# Altium footprint library PCAP_6.3x11.PcbLib: 1 footprints
Each footprint in its own frame and in the unit in brackets; x right, y up, seen from the top. Pads: shape width x height; smd on the part's side, far side on the other; paste and mask are expansions set on the pad; w line width, h text height; cw(c..) or ccw(c..) is an arc to the next point about the centre after c.
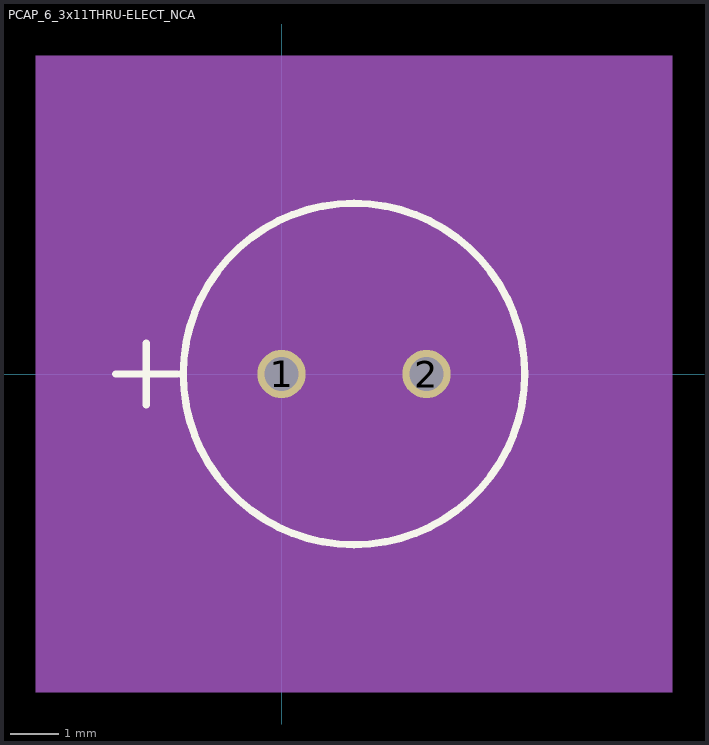
[diagram p0: the footprint, top view; thin cyan lines are the x and y axes]

## PCAP_6_3x11THRU-ELECT_NCA [mm]
pads (2):
  round 1 / inner rect 1.27x1.27 / far side round 1 hole 0.7 mask+0: 1(0,0)
  round 1 / inner round 1.27 / far side round 1 hole 0.7 mask+0: 2(2.997,0)
Top Overlay:
  circle w0.152: c1.499,0 r3.531
  lines w0.152: -3.429,0 -2.159,0 ; -2.794,-0.635 -2.794,0.635
Mechanical 5:
  region: 8.077,-6.579 -5.08,-6.579 -5.08,6.579 8.077,6.579
Mechanical 7:
  lines w0.025: -1.905,0 -1.905,5.055 ; -1.27,-4.674 0,-4.674 ; 0,-5.055 0,0 ; 1.499,-3.404 6.553,-3.404 ; 1.499,3.404 6.553,3.404 ; 2.997,-5.055 2.997,0 ; 4.267,-4.674 2.997,-4.674 ; 4.902,0 4.902,5.055 ; -1.905,4.674 4.902,4.674 ; -1.905,4.674 -1.651,4.801 -1.651,4.547 -1.905,4.674 ; 0,-4.674 -0.254,-4.547 -0.254,-4.801 0,-4.674 ; 2.997,-4.674 3.251,-4.547 3.251,-4.801 2.997,-4.674 ; 4.902,4.674 4.648,4.801 4.648,4.547 4.902,4.674 ; 6.172,-3.404 6.172,3.404 ; 6.172,-3.404 6.045,-3.15 6.299,-3.15 6.172,-3.404 ; 6.172,3.404 6.045,3.15 6.299,3.15 6.172,3.404
  text "Pin 1 Pad Style: s127h76" at -6.121,-8.484 h1.27
  text "Default Pad Style: c127h76" at -6.756,-10.389 h1.27
  text "Alt 1 Pad Style: b152_229h76" at -7.391,-12.294 h1.27
  text "Alt 2 Pad Style: b229_152h76" at -7.391,-14.199 h1.27
  text "0.118in/2.997mm" at -0.883,-5.817 h0.64
  text "0.268in/6.807mm" at -0.883,5.182 h0.64
  text "0.268in/6.807mm" at 6.68,-0.318 h0.64
Mechanical 13:
  circle w0: c1.499,0 r3.404
  lines w0.025: -3.429,0 -2.159,0 ; -2.794,-0.635 -2.794,0.635
Mechanical 15:
  region: -2.159,1.506 -0.007,3.658 3.005,3.658 5.156,1.506 5.156,-1.506 3.005,-3.658 -0.007,-3.658 -2.159,-1.506
  lines w0.152: -2.159,-1.506 -0.007,-3.658 3.005,-3.658 5.156,-1.506 5.156,1.506 3.005,3.658 -0.007,3.658 -2.159,1.506 -2.159,-1.506
3D body "PCAP_6.3x11.step": height 12.26, standoff -4.67, extent -1.914,-3.403 4.903,3.404
3D body: height 0.25, standoff 0, extent 0,0 0.254,0.254